# EAGLE library part CON-6 (library _connecter)
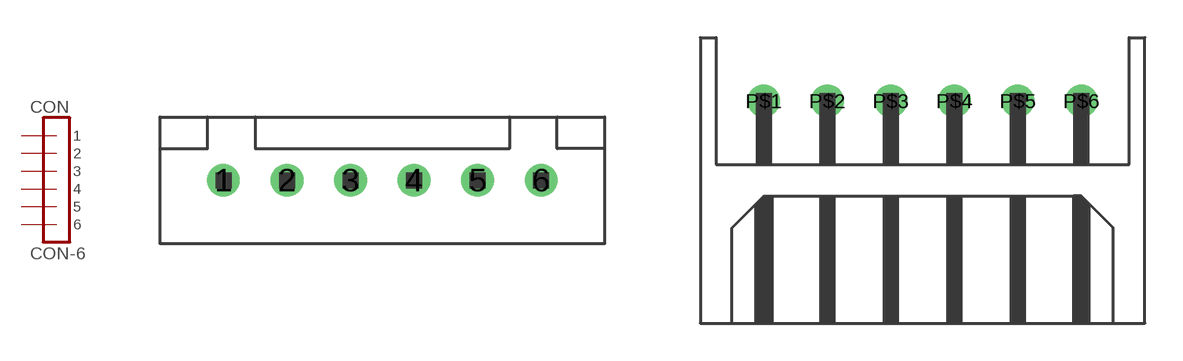
[diagram p0: symbol with the pads of 6-I; footprints 6-I, 6-L]

Designator prefix CON

## CON-6I  [6-I]
1  1  pas
2  2  pas
3  3  pas
4  4  pas
5  5  pas
6  6  pas

## CON-6L  [6-L]
P$1  1  pas
P$2  2  pas
P$3  3  pas
P$4  4  pas
P$5  5  pas
P$6  6  pas

## Footprint 6-I (pad centres in mm)
drill 0.8: 1 -6.35,0; 2 -3.81,0; 3 -1.27,0; 4 1.27,0; 5 3.81,0; 6 6.35,0

## Footprint 6-L (pad centres in mm)
drill 0.8: P$1 -6.35,0; P$2 -3.81,0; P$3 -1.27,0; P$4 1.27,0; P$5 3.81,0; P$6 6.35,0